# Altium schematic symbol library Connecteur.SchLib: 72 symbols
Pins are listed as number, name and electrical type; pins without a type are passive.

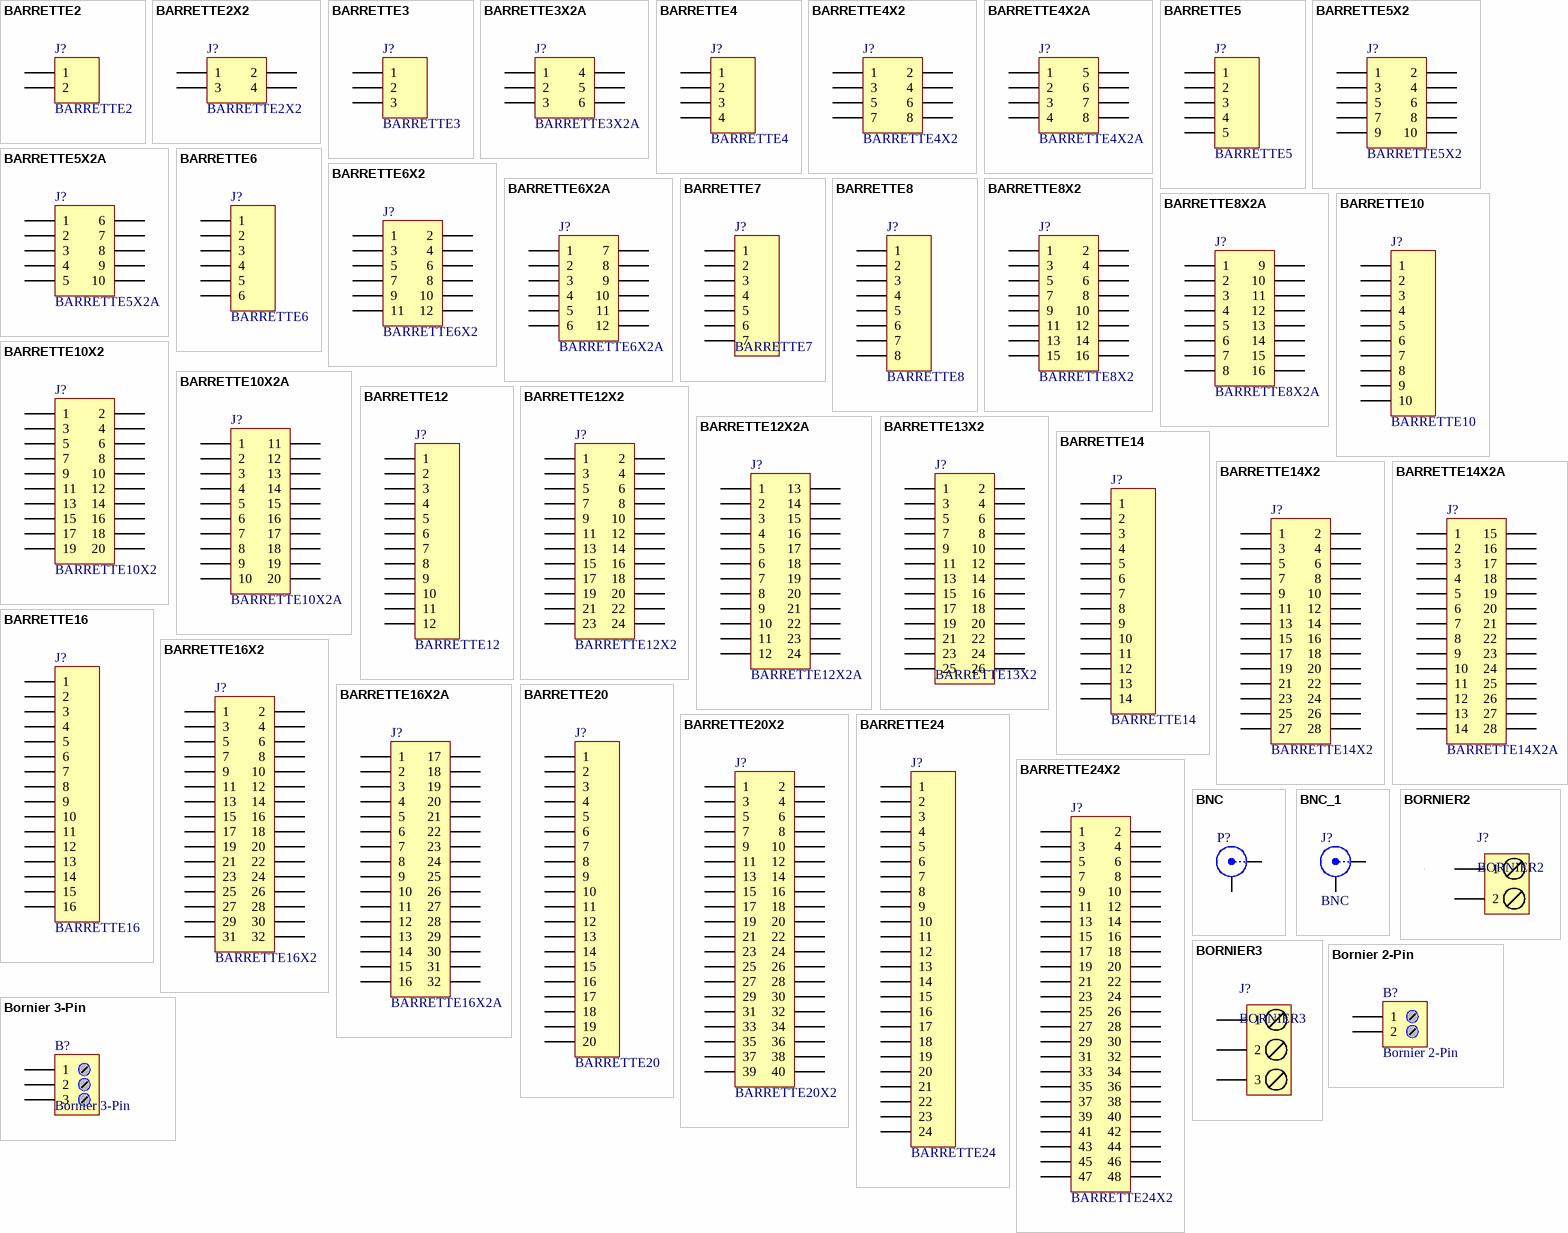
[diagram p0: symbols BARRETTE2 to Bornier 3-Pin]

## BARRETTE2
designator J?
Header, 2-Pin; LatestRevisionDate: 17-Jul-2002; LatestRevisionNote: Re-released for DXP Platform.; Publisher: Altium Limited
signal-integrity model Connector
footprint HEADER2 (Connector; Header; 2 Position)
footprint HEADER2H (Connector; Header; 2 Position; Right Angle)
footprint PIN2 (Connector; 2 Position; Pin Spacing=2.54mm; SIP2)
pins: 1, 2

## BARRETTE2X2
designator J?
Header, 2-Pin, Dual row; LatestRevisionDate: 17-Jul-2002; LatestRevisionNote: Re-released for DXP Platform.; Publisher: Altium Limited
signal-integrity model Connector
footprint HEADER2X2 (Connector; Header; 2x2 Position)
footprint HEADER2X2H (Connector; Header; 2x2 Position; Right Angle)
footprint HDRCMS2X2 (Connector; Header; CMS; 4 Position; Pin Spacing=2.54mm)
pins: 1, 2, 3, 4

## BARRETTE3
designator J?
Header, 3-Pin; LatestRevisionDate: 17-Jul-2002; LatestRevisionNote: Re-released for DXP Platform.; Publisher: Altium Limited
signal-integrity model Connector
footprint HEADER3 (Connector; Header; 3 Position)
footprint HEADER3H (Connector; Header; 3 Position; Right Angle)
footprint HE14_3 (Connector; HE14; 3 Position; Pin Spacing=2.54mm)
pins: 1, 2, 3

## BARRETTE3X2A
designator J?
Header, 3-Pin, Dual row; LatestRevisionDate: 17-Jul-2002; LatestRevisionNote: Re-released for DXP Platform.; Publisher: Altium Limited
signal-integrity model Connector
footprint HEADER3X2_CEN (Connector; Header; 3x2 Position)
pins: 1, 2, 3, 4, 5, 6

## BARRETTE4
designator J?
Header, 4-Pin; LatestRevisionDate: 17-Jul-2002; LatestRevisionNote: Re-released for DXP Platform.; Publisher: Altium Limited
signal-integrity model Connector
footprint HEADER4 (Connector; Header; 4 Position)
footprint HEADER4H (Connector; Header; 4 Position; Right Angle)
footprint HE14_4 (Connector; HE14; 4 Position; Pin Spacing=2.54mm)
pins: 1, 2, 3, 4

## BARRETTE4X2
designator J?
Header, 4-Pin, Dual row; LatestRevisionDate: 17-Jul-2002; LatestRevisionNote: Re-released for DXP Platform.; Publisher: Altium Limited
signal-integrity model Connector
footprint HEADER4X2 (Connector; Header; 4x2 Position)
footprint HEADER4X2H (Connector; Header; 4x2 Position; Right Angle)
footprint HDRCMS2X4 (Connector; Header; CMS; 8 Position; Pin Spacing=2.54mm)
pins: 1, 2, 3, 4, 5, 6, 7, 8

## BARRETTE4X2A
designator J?
Header, 4-Pin, Dual row; LatestRevisionDate: 17-Jul-2002; LatestRevisionNote: Re-released for DXP Platform.; Publisher: Altium Limited
signal-integrity model Connector
footprint HEADER4X2_CEN (Connector; Header; 4x2 Position)
pins: 1, 2, 3, 4, 5, 6, 7, 8

## BARRETTE5
designator J?
Header, 5-Pin; LatestRevisionDate: 17-Jul-2002; LatestRevisionNote: Re-released for DXP Platform.; Publisher: Altium Limited
signal-integrity model Connector
footprint HEADER5 (Connector; Header; 5 Position)
footprint HEADER5H (Connector; Header; 5 Position; Right Angle)
footprint HE14_5 (Connector; HE14; 5 Position; Pin Spacing=2.54mm)
pins: 1, 2, 3, 4, 5

## BARRETTE5X2
designator J?
Header, 5-Pin, Dual row; LatestRevisionDate: 17-Jul-2002; LatestRevisionNote: Re-released for DXP Platform.; Publisher: Altium Limited
signal-integrity model Connector
footprint HEADER5X2 (Connector; Header; 5x2 Position)
footprint HEADER5X2H (Connector; Header; 5x2 Position; Right Angle)
pins: 1, 2, 3, 4, 5, 6, 7, 8, 9, 10

## BARRETTE5X2A
designator J?
Header, 5-Pin, Dual row; LatestRevisionDate: 17-Jul-2002; LatestRevisionNote: Re-released for DXP Platform.; Publisher: Altium Limited
signal-integrity model Connector
footprint HEADER5X2_CEN (Connector; Header; 5x2 Position)
pins: 1, 2, 3, 4, 5, 6, 7, 8, 9, 10

## BARRETTE6
designator J?
Header, 6-Pin; LatestRevisionDate: 17-Jul-2002; LatestRevisionNote: Re-released for DXP Platform.; Publisher: Altium Limited
signal-integrity model Connector
footprint HEADER6 (Connector; Header; 6 Position)
footprint HEADER6H (Connector; Header; 6 Position; Right Angle)
footprint HE14_6 (Connector; HE14; 6 Position; Pin Spacing=2.54mm)
pins: 1, 2, 3, 4, 5, 6

## BARRETTE6X2
designator J?
Header, 6-Pin, Dual row; LatestRevisionDate: 17-Jul-2002; LatestRevisionNote: Re-released for DXP Platform.; Publisher: Altium Limited
signal-integrity model Connector
footprint HEADER6X2 (Connector; Header; 6x2 Position)
footprint HEADER6X2H (Connector; Header; 6x2 Position; Right Angle)
pins: 1, 2, 3, 4, 5, 6, 7, 8, 9, 10, 11, 12

## BARRETTE6X2A
designator J?
Header, 6-Pin, Dual row; LatestRevisionDate: 17-Jul-2002; LatestRevisionNote: Re-released for DXP Platform.; Publisher: Altium Limited
signal-integrity model Connector
footprint HEADER6X2_CEN (Connector; Header; 6x2 Position)
pins: 1, 2, 3, 4, 5, 6, 7, 8, 9, 10, 11, 12

## BARRETTE7
designator J?
Header, 6-Pin; LatestRevisionDate: 17-Jul-2002; LatestRevisionNote: Re-released for DXP Platform.; Publisher: Altium Limited
signal-integrity model Connector
footprint HEADER6 (Connector; Header; 6 Position)
footprint HEADER6H (Connector; Header; 6 Position; Right Angle)
footprint HE14_6 (Connector; HE14; 6 Position; Pin Spacing=2.54mm)
footprint MOLEX7_2.50MM (7 pins, straight)
pins: 1, 2, 3, 4, 5, 6, 7

## BARRETTE8
designator J?
Header, 8-Pin; LatestRevisionDate: 17-Jul-2002; LatestRevisionNote: Re-released for DXP Platform.; Publisher: Altium Limited
signal-integrity model Connector
footprint HEADER8 (Connector; Header; 8 Position)
footprint HEADER8H (Connector; Header; 8 Position; Right Angle)
footprint HE14_8 (Connector; HE14; 8 Position; Pin Spacing=2.54mm)
pins: 1, 2, 3, 4, 5, 6, 7, 8

## BARRETTE8X2
designator J?
Header, 8-Pin, Dual row; LatestRevisionDate: 17-Jul-2002; LatestRevisionNote: Re-released for DXP Platform.; Publisher: Altium Limited
signal-integrity model Connector
footprint HEADER8X2 (Connector; Header; 8x2 Position)
footprint HEADER8X2H (Connector; Header; 8x2 Position; Right Angle)
pins: 1, 2, 3, 4, 5, 6, 7, 8, 9, 10, 11, 12, 13, 14, 15, 16

## BARRETTE8X2A
designator J?
Header, 8-Pin, Dual row; LatestRevisionDate: 17-Jul-2002; LatestRevisionNote: Re-released for DXP Platform.; Publisher: Altium Limited
signal-integrity model Connector
footprint HEADER8X2_CEN (Connector; Header; 8x2 Position)
pins: 1, 2, 3, 4, 5, 6, 7, 8, 9, 10, 11, 12, 13, 14, 15, 16

## BARRETTE10
designator J?
Header, 10-Pin; LatestRevisionDate: 17-Jul-2002; LatestRevisionNote: Re-released for DXP Platform.; Publisher: Altium Limited
signal-integrity model Connector
footprint HEADER10 (Connector; Header; 10 Position)
footprint HEADER10H (Connector; Header; 10 Position; Right Angle)
pins: 1, 2, 3, 4, 5, 6, 7, 8, 9, 10

## BARRETTE10X2
designator J?
Header, 10-Pin, Dual row; LatestRevisionDate: 17-Jul-2002; LatestRevisionNote: Re-released for DXP Platform.; Publisher: Altium Limited
signal-integrity model Connector
footprint HEADER10X2 (Connector; Header; 10x2 Position)
footprint HEADER10X2H (Connector; Header; 10x2 Position; Right Angle)
pins: 1, 2, 3, 4, 5, 6, 7, 8, 9, 10, 11, 12, 13, 14, 15, 16, 17, 18, 19, 20

## BARRETTE10X2A
designator J?
Header, 10-Pin, Dual row; LatestRevisionDate: 17-Jul-2002; LatestRevisionNote: Re-released for DXP Platform.; Publisher: Altium Limited
signal-integrity model Connector
footprint HEADER10X2_CEN (Connector; Header; 10x2 Position)
pins: 1, 2, 3, 4, 5, 6, 7, 8, 9, 10, 11, 12, 13, 14, 15, 16, 17, 18, 19, 20

## BARRETTE12
designator J?
Header, 12-Pin; LatestRevisionDate: 17-Jul-2002; LatestRevisionNote: Re-released for DXP Platform.; Publisher: Altium Limited
signal-integrity model Connector
footprint HEADER12 (Connector; Header; 12 Position)
footprint HEADER12H (Connector; Header; 12 Position; Right Angle)
pins: 1, 2, 3, 4, 5, 6, 7, 8, 9, 10, 11, 12

## BARRETTE12X2
designator J?
Header, 12-Pin, Dual row; LatestRevisionDate: 17-Jul-2002; LatestRevisionNote: Re-released for DXP Platform.; Publisher: Altium Limited
signal-integrity model Connector
footprint HEADER12X2 (Connector; Header; 12x2 Position)
footprint HEADER12X2H (Connector; Header; 12x2 Position; Right Angle)
pins: 1, 2, 3, 4, 5, 6, 7, 8, 9, 10, 11, 12, 13, 14, 15, 16, 17, 18, 19, 20, 21, 22, 23, 24

## BARRETTE12X2A
designator J?
Header, 12-Pin, Dual row; LatestRevisionDate: 17-Jul-2002; LatestRevisionNote: Re-released for DXP Platform.; Publisher: Altium Limited
signal-integrity model Connector
footprint HEADER12X2_CEN (Connector; Header; 12x2 Position)
pins: 1, 2, 3, 4, 5, 6, 7, 8, 9, 10, 11, 12, 13, 14, 15, 16, 17, 18, 19, 20, 21, 22, 23, 24

## BARRETTE13X2
designator J?
Header, 13-Pin, Dual row; LatestRevisionDate: 17-Jul-2002; LatestRevisionNote: Re-released for DXP Platform.; Publisher: Altium Limited
signal-integrity model Connector
footprint HEADER12X2 (Connector; Header; 12x2 Position)
footprint HEADER12X2H (Connector; Header; 12x2 Position; Right Angle)
footprint HEADER13X2 (Footprint not found)
footprint HDR2X13
pins: 1, 2, 3, 4, 5, 6, 7, 8, 9, 10, 11, 12, 13, 14, 15, 16, 17, 18, 19, 20, 21, 22, 23, 24, 25, 26

## BARRETTE14
designator J?
Header, 14-Pin; LatestRevisionDate: 17-Jul-2002; LatestRevisionNote: Re-released for DXP Platform.; Publisher: Altium Limited
signal-integrity model Connector
footprint HEADER14 (Connector; Header; 14 Position)
footprint HEADER14H (Connector; Header; 14 Position; Right Angle)
pins: 1, 2, 3, 4, 5, 6, 7, 8, 9, 10, 11, 12, 13, 14

## BARRETTE14X2
designator J?
Header, 14-Pin, Dual row; LatestRevisionDate: 17-Jul-2002; LatestRevisionNote: Re-released for DXP Platform.; Publisher: Altium Limited
signal-integrity model Connector
footprint HEADER14X2 (Connector; Header; 14x2 Position)
footprint HEADER14X2H (Connector; Header; 14x2 Position; Right Angle)
pins: 1, 2, 3, 4, 5, 6, 7, 8, 9, 10, 11, 12, 13, 14, 15, 16, 17, 18, 19, 20, 21, 22, 23, 24, 25, 26, 27, 28

## BARRETTE14X2A
designator J?
Header, 14-Pin, Dual row; LatestRevisionDate: 17-Jul-2002; LatestRevisionNote: Re-released for DXP Platform.; Publisher: Altium Limited
signal-integrity model Connector
footprint HEADER14X2_CEN (Connector; Header; 14x2 Position)
pins: 1, 2, 3, 4, 5, 6, 7, 8, 9, 10, 11, 12, 13, 14, 15, 16, 17, 18, 19, 20, 21, 22, 23, 24, 25, 26, 27, 28

## BARRETTE16
designator J?
Header, 16-Pin; LatestRevisionDate: 17-Jul-2002; LatestRevisionNote: Re-released for DXP Platform.; Publisher: Altium Limited
signal-integrity model Connector
footprint HEADER16 (Connector; Header; 16 Position)
footprint HEADER16H (Connector; Header; 16 Position; Right Angle)
pins: 1, 2, 3, 4, 5, 6, 7, 8, 9, 10, 11, 12, 13, 14, 15, 16

## BARRETTE16X2
designator J?
Header, 16-Pin, Dual row; LatestRevisionDate: 17-Jul-2002; LatestRevisionNote: Re-released for DXP Platform.; Publisher: Altium Limited
signal-integrity model Connector
footprint HEADER16X2 (Connector; Header; 16x2 Position)
footprint HEADER16X2H (Connector; Header; 16x2 Position; Right Angle)
pins: 1, 2, 3, 4, 5, 6, 7, 8, 9, 10, 11, 12, 13, 14, 15, 16, 17, 18, 19, 20, 21, 22, 23, 24, 25, 26, 27, 28, 29, 30, 31, 32

## BARRETTE16X2A
designator J?
Header, 16-Pin, Dual row; LatestRevisionDate: 17-Jul-2002; LatestRevisionNote: Re-released for DXP Platform.; Publisher: Altium Limited
signal-integrity model Connector
footprint HEADER16X2_CEN (Connector; Header; 16x2 Position)
pins: 1, 2, 3, 4, 5, 6, 7, 8, 9, 10, 11, 12, 13, 14, 15, 16, 17, 18, 19, 20, 21, 22, 23, 24, 25, 26, 27, 28, 29, 30, 31, 32

## BARRETTE20
designator J?
Header, 20-Pin; LatestRevisionDate: 17-Jul-2002; LatestRevisionNote: Re-released for DXP Platform.; Publisher: Altium Limited
signal-integrity model Connector
footprint HEADER20 (Connector; Header; 20 Position)
footprint HEADER20H (Connector; Header; 20 Position; Right Angle)
pins: 1, 2, 3, 4, 5, 6, 7, 8, 9, 10, 11, 12, 13, 14, 15, 16, 17, 18, 19, 20

## BARRETTE20X2
designator J?
Header, 20-Pin, Dual row; LatestRevisionDate: 17-Jul-2002; LatestRevisionNote: Re-released for DXP Platform.; Publisher: Altium Limited
signal-integrity model Connector
footprint HEADER20X2 (Connector; Header; 20x2 Position)
footprint HEADER20X2H (Connector; Header; 20x2 Position; Right Angle)
pins: 1, 2, 3, 4, 5, 6, 7, 8, 9, 10, 11, 12, 13, 14, 15, 16, 17, 18, 19, 20, 21, 22, 23, 24, 25, 26, 27, 28, 29, 30, 31, 32, 33, 34, 35, 36, 37, 38, 39, 40

## BARRETTE24
designator J?
Header, 24-Pin; LatestRevisionDate: 17-Jul-2002; LatestRevisionNote: Re-released for DXP Platform.; Publisher: Altium Limited
signal-integrity model Connector
footprint HEADER24 (Connector; Header; 24 Position)
footprint HEADER24H (Connector; Header; 24 Position; Right Angle)
pins: 1, 2, 3, 4, 5, 6, 7, 8, 9, 10, 11, 12, 13, 14, 15, 16, 17, 18, 19, 20, 21, 22, 23, 24

## BARRETTE24X2
designator J?
Header, 24-Pin, Dual row; LatestRevisionDate: 17-Jul-2002; LatestRevisionNote: Re-released for DXP Platform.; Publisher: Altium Limited
signal-integrity model Connector
footprint HEADER24X2 (Connector; Header; 24x2 Position)
footprint HEADER24X2H (Connector; Header; 24x2 Position; Right Angle)
pins: 1, 2, 3, 4, 5, 6, 7, 8, 9, 10, 11, 12, 13, 14, 15, 16, 17, 18, 19, 20, 21, 22, 23, 24, 25, 26, 27, 28, 29, 30, 31, 32, 33, 34, 35, 36, 37, 38, 39, 40, 41, 42, 43, 44, 45, 46, 47, 48

## BNC
designator P?
BNC Elbow Connector; LatestRevisionDate: 17-Jul-2002; LatestRevisionNote: Re-released for DXP Platform.; Publisher: Altium Limited
footprint BNC_RA CON (Connector; BNC Elbow)
signal-integrity model Connector
pins: 1 X, 2 Y

## BNC_1
designator J?, comment BNC
BNC Elbow Connector; LatestRevisionDate: 17-Jul-2002; LatestRevisionNote: Re-released for DXP Platform.; Publisher: Altium Limited
signal-integrity model Connector
footprint BNC_FEM_COUDE_400 (Connector; BNC Square Right Angle; 50R; PCB Mount Jack Receptacle)
footprint BNC_FEM_COUD_ISOLEE_400 (Connector; BNC Right Angle; 50R; Insulation; mounting panel)
footprint BNC_VERT_250 (Connector; BNC Vertical; 50R;  Pin Spacing=6.34mm)
footprint BNC_VERT_400 (Connector; BNC Vertical; 50R; Pin Spacing=10.16mm)
pins: 1 X, 2 Y

## BORNIER2
designator J?
Terminal blocks, 2 pins, pitch=5mm
footprint BORNIER2 (Connector; Header; 2 Position; screw terminal blocks, Pin Spacing=5.08mm)
footprint BORNIER2_FEM_COUDE (Connector; Header; 2 Position; Right Angle; Female; Pin Spacing=5.08mm Green)
footprint BORNIER2_FEM_HORIZ (Connector; Header; 2 Position; Right Angle; Female; Pin Spacing=7.62mm Green)
pins: 1, 2

## BORNIER3
designator J?
Terminal blocks, 2 pins, pitch=5mm
footprint BORNIER3 (Connector; Header; 3 Position; screw terminal blocks, Pin Spacing=5.08mm)
footprint BORNIER3_FEM_COUDE (Connector; Header; 3 Position; Right Angle; Female; Pin Spacing=5.08mm Green)
pins: 1, 2, 3

## Bornier 2-Pin
designator B?
LatestRevisionDate: 17-Jul-2002; LatestRevisionNote: Re-released for DXP Platform.; Publisher: Altium Limited
signal-integrity model Connector
footprint Bornier_2
pins: 1, 2

## Bornier 3-Pin
designator B?
LatestRevisionDate: 17-Jul-2002; LatestRevisionNote: Re-released for DXP Platform.; Publisher: Altium Limited
footprint Bornier_3
pins: 1, 2, 3

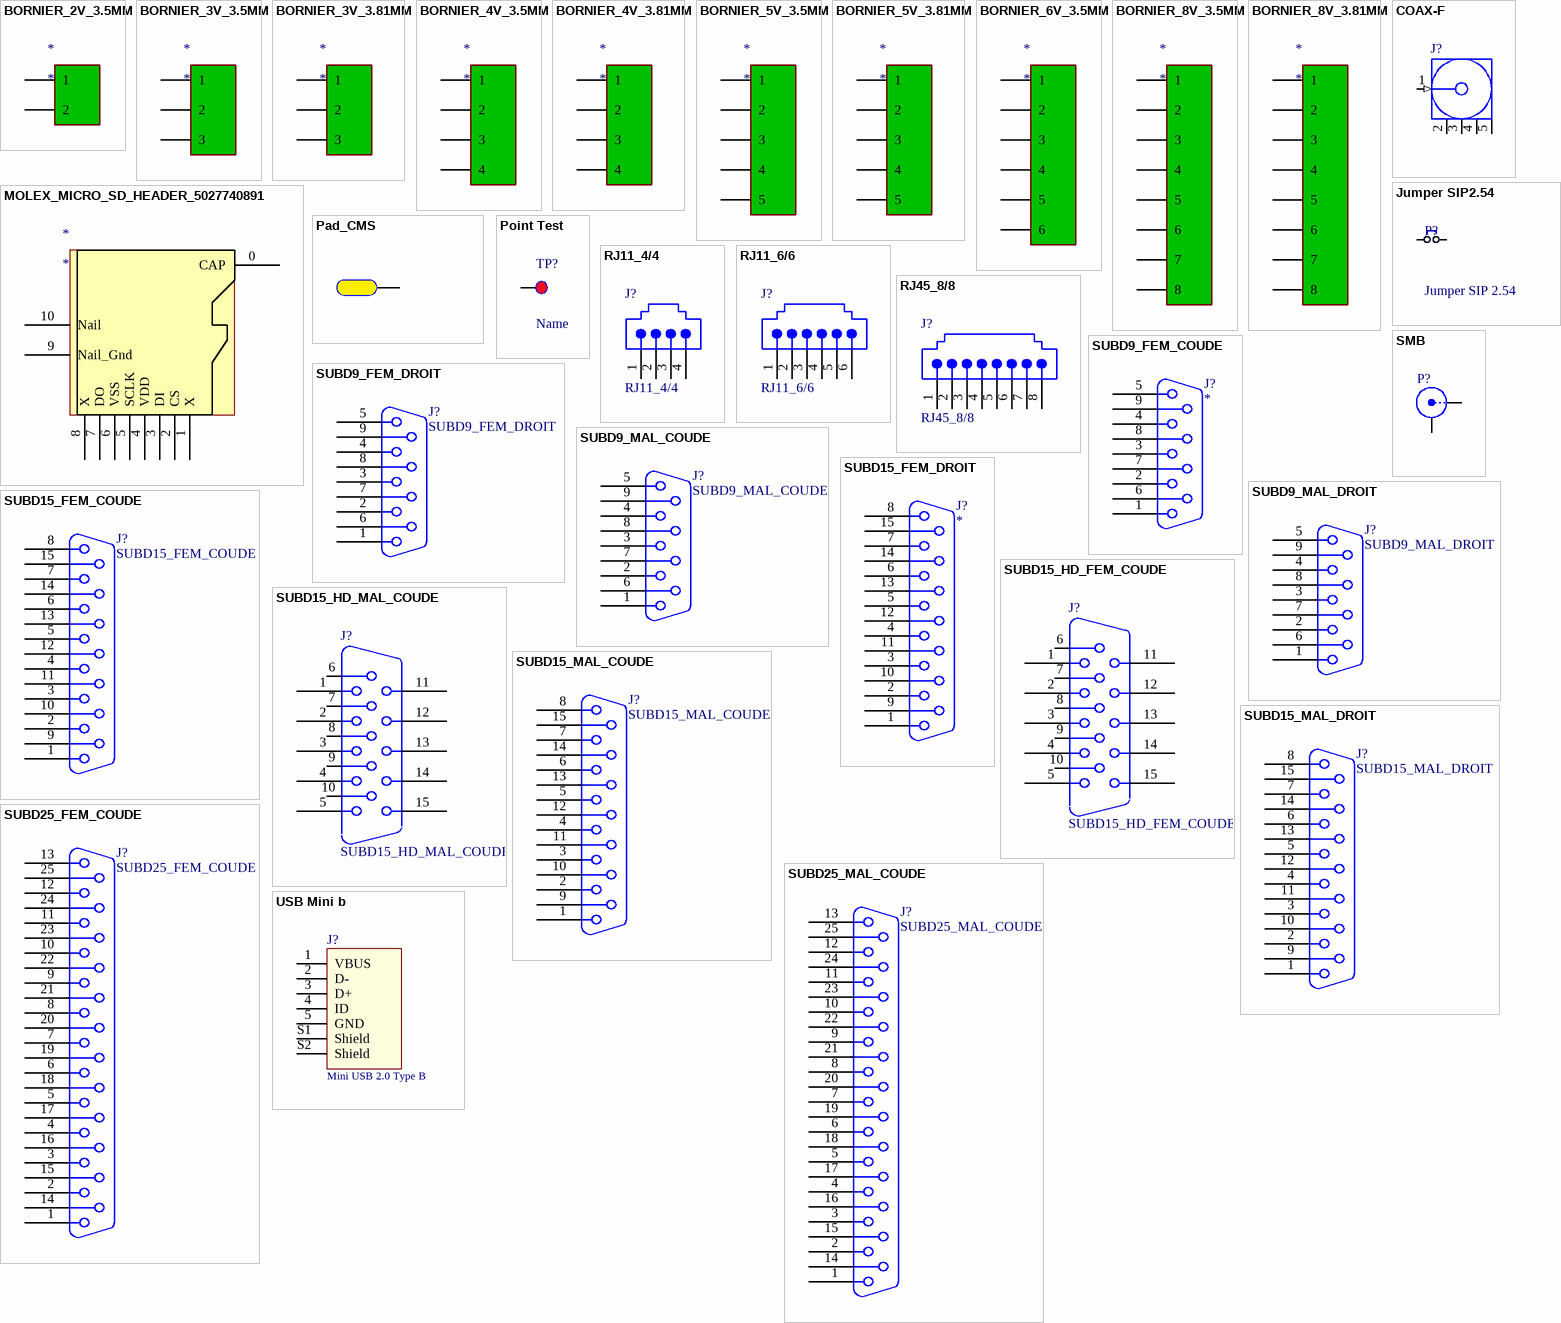
[diagram p1: symbols BORNIER_2V_3.5MM to USB Mini b]

## BORNIER_2V_3.5MM
designator *
footprint BORNIER_2V_3.5MM
pins: 1, 2

## BORNIER_3V_3.5MM
designator *
footprint BORNIER_3V_3.5MM
pins: 1, 2, 3

## BORNIER_3V_3.81MM
designator *
footprint BORNIER_3V_3.81MM
pins: 1, 2, 3

## BORNIER_4V_3.5MM
designator *
footprint BORNIER_4V_3.5MM (Footprint not found)
pins: 1, 2, 3, 4

## BORNIER_4V_3.81MM
designator *
footprint BORNIER_4V_3.81MM (Footprint not found)
pins: 1, 2, 3, 4

## BORNIER_5V_3.5MM
designator *
footprint BORNIER_5V_3.5MM
pins: 1, 2, 3, 4, 5

## BORNIER_5V_3.81MM
designator *
footprint BORNIER_5V_3.81MM
pins: 1, 2, 3, 4, 5

## BORNIER_6V_3.5MM
designator *
footprint BORNIER_6V_3.5MM
pins: 1, 2, 3, 4, 5, 6

## BORNIER_8V_3.5MM
designator *
BORNIER_8V_3.5MM
footprint BORNIER_8V_3.5MM (Footprint not found)
footprint BORNIER_8V_3.5MM_COUDE
pins: 1, 2, 3, 4, 5, 6, 7, 8

## BORNIER_8V_3.81MM
designator *
BORNIER_8V_3.81MM
footprint BORNIER_8V_3.81MM
pins: 1, 2, 3, 4, 5, 6, 7, 8

## COAX-F
designator J?
RF Coaxial PCB Connector, MCX; Thru-Hole, Right-Angle Mount Socket, Blunt Post Terminal, 50 Ohm Impedance; PCB_Layout: Complies with manufacturer's recommendation.; DrillSize: Corresponds to nominal value.; Published: 15-Jul-2004; LatestRevisionDate: 15-Jul-2004; LatestRevisionNote: Component Replaced.; DatasheetDocument: 30-May-2003; PackageDocument: 04-Jul-1999; PackageReference: 919-119J-51AX; Publisher: Altium Limited; ComponentLink1Description: Manufacturer Link; ComponentLink1URL: http://www.amphenolrf.com/
footprint MCX5.08-H5 (Connector; RF Coaxial, MCX, Thru-Hole; 5 Position; Right-Angle)
pins: 1 Signal (in) "Signal Pin", 2 GND (power), 3 GND (power), 4 GND (power), 5 GND (power)

## Jumper SIP2.54
designator P?, comment Jumper SIP 2.54
Jumper SIP2.54
footprint HDR1X2 (Connector; Header; 2 Position)
signal-integrity model Connector
pins: 1, 2

## MOLEX_MICRO_SD_HEADER_5027740891
designator *
footprint MOLEX_MICRO_SD_HEADER_5027740891
pins: 0 CAP, 1 X, 2 CS, 3 DI, 4 VDD, 5 SCLK, 6 VSS, 7 DO, 8 X, 9 Nail_Gnd, 10 Nail

## Pad_CMS
designator P?
Pad pour souder un fil; LatestRevisionNote: Mech Layer 1 removed.; PackageReference: PAD_CMS; Publisher: Damien Guitton
footprint PAD_CMS_5.08x2.54 (Pad pour souder un fil)
footprint PAD_CMS_10x3 (Pad pour souder un fil)
pins: 1

## Point Test
designator TP?, comment Name
Point test; Publisher: Damien GUITTON
footprint Point Test_D2.54_P1mm (Test point for PCB_Hole 1mm)
footprint Point Test_D3_P1.6mm (Test point for PCB_Hole 1.6mm)
footprint Point Test_D0.9_P0.5mm (Test point for PCB_Hole 0.5mm)
footprint Point Test_D1.4_P1mm (Test point for PCB_Hole 1mm)
pins: 1

## RJ11_4/4
designator J?
Right Angle, Standard Profile, RJ11-Keyed, Flange Mount PCB Jack; Ports: 1; Positions/Loaded: Port1 - 8 Keyed/4; PerformanceCategory: 3; PCB_Mounting: Thru-Hole; ComponentAvailability: Obsolete; DrillSize: Nominal, Rounded to nearest 0.05mm; PCB_Layout: Complies with Manufacturer's Recommendation.; Published: 25-Jun-2002; DatasheetDocument: 18-Dec-2001; PackageDocument: 18-Dec-2001; PackageReference: 15-43-6245; Publisher: Altium Limited; ComponentLink1Description: Manufacturer Link; ComponentLink1URL: http://www.molex.com/; ComponentLink2Description: Datasheet; ComponentLink2URL: http://www.molex.com/cmc_upload/common_files/1212003_catalogmx41314.pdf; ComponentLink3Description: Iges Model; ComponentLink3URL: http://www.molex.com/pdm_docs/igs/15-43-6233_igs.zip; Type: RJ11_4/4
footprint RJ11_4/4 (Connector; RJ11; 4P/4C; Low Profil; Right Angle; Pin Spacing=2.54mm)
pins: 1, 2, 3, 4

## RJ11_6/6
designator J?
Right Angle, Standard Profile, Offset Latch DECconnect, Flangeless PCB Jack; Ports: 1; Positions/Loaded: Port1 - 6 Offset Latch/6; PerformanceCategory: 3; PCB_Mounting: Thru-Hole; DrillSize: Nominal, Rounded to nearest 0.05mm; PCB_Layout: Complies with Manufacturer's Recommendation.; Published: 25-Jun-2002; DatasheetDocument: 18-Dec-2001; PackageDocument: 18-Dec-2001; PackageReference: 15-43-6110; Publisher: Altium Limited; ComponentLink1Description: Manufacturer Link; ComponentLink1URL: http://www.molex.com/; ComponentLink2Description: Datasheet; ComponentLink2URL: http://www.molex.com/cmc_upload/common_files/1212003_41369catalogpage.pdf; Type: RJ11_6/6
footprint RJ11_6/6 (Connector; RJ11; 6P/6C; Low Profil; Right Angle; Pin Spacing=2.54mm)
footprint RJ11_6/6 - droit (Connector; RJ11; 6P/6C; Low Profil; Right Angle; Pin Spacing=2.54mm)
pins: 1, 2, 3, 4, 5, 6

## RJ45_8/8
designator J?
Right Angle, Standard Profile, RJ45-Keyed, Flange Mount PCB Jack; Ports: 1; Positions/Loaded: Port1 - 8 Keyed/8; PerformanceCategory: 3; PCB_Mounting: Thru-Hole; ComponentAvailability: Obsolete; DrillSize: Nominal, Rounded to nearest 0.05mm; PCB_Layout: Complies with Manufacturer's Recommendation.; Published: 25-Jun-2002; DatasheetDocument: 18-Dec-2001; PackageDocument: 18-Dec-2001; PackageReference: 15-43-6233; Publisher: Altium Limited; ComponentLink1Description: Manufacturer Link; ComponentLink1URL: http://www.molex.com/; ComponentLink2Description: Datasheet; ComponentLink2URL: http://www.molex.com/cmc_upload/common_files/1212003_catalogmx41314.pdf; ComponentLink3Description: Iges Model; ComponentLink3URL: http://www.molex.com/pdm_docs/igs/15-43-6233_igs.zip; Type: RJ45_8/8
footprint RJ45_8/8 (Connector; RJ45; 8P/8C; Low Profil; Right Angle; Pin Spacing=2.54mm)
pins: 1, 2, 3, 4, 5, 6, 7, 8

## SMB
designator P?
SMB Straight Connector; LatestRevisionDate: 17-Jul-2002; LatestRevisionNote: Re-released for DXP Platform.; Publisher: Altium Limited
footprint SMB_V-RJ45 (Connector; SMB Straight)
signal-integrity model Connector
pins: 1 X, 2 Y

## SUBD9_FEM_COUDE
designator J?
Connector; SUBD; 9 Position;Female; Right Angle
footprint SUBD9_FEM_COUDE (Connector; SUBD; 9 Position;Female; Right Angle; Pin Spacing=2.77mm/2.8mm)
pins: 1, 2, 3, 4, 5, 6, 7, 8, 9

## SUBD9_FEM_DROIT
designator J?
Connector; SUBD; 9 Position; Female
footprint SUBD9_FEM_DROIT (Connector; SUBD; 9 Position; Female; Pin Spacing=2.77mm/2.8mm)
pins: 1, 2, 3, 4, 5, 6, 7, 8, 9

## SUBD9_MAL_COUDE
designator J?
Connector; SUBD; 9 Position; Male; Right Angle;
footprint SUBD9_MAL_COUDE (Connector; SUBD; 9 Position; Male; Right Angle; Pin Spacing=2.77mm/2.8mm)
pins: 1, 2, 3, 4, 5, 6, 7, 8, 9

## SUBD9_MAL_DROIT
designator J?
Connector; SUBD; 9 Position; Male
footprint SUBD9_MAL_DROIT (Connector; SUBD; 9 Position; Male; Pin Spacing=2.77mm/2.8mm)
pins: 1, 2, 3, 4, 5, 6, 7, 8, 9

## SUBD15_FEM_COUDE
designator J?
Connector; SUBD; 15 Position; Female; Right Angle
footprint SUBD15_FEM_COUDE (Connector; SUBD; 15 Position; Female; Right Angle; Pin Spacing=2.77mm/2.8mm)
pins: 1, 2, 3, 4, 5, 6, 7, 8, 9, 10, 11, 12, 13, 14, 15

## SUBD15_FEM_DROIT
designator J?
Connector; SUBD; 15 Position; Female
footprint SUBD15_FEM_DROIT (Connector; SUBD; 15 Position; Female; Pin Spacing=2.77mm/2.8mm)
pins: 1, 2, 3, 4, 5, 6, 7, 8, 9, 10, 11, 12, 13, 14, 15

## SUBD15_HD_FEM_COUDE
designator J?
Connector; SUBD; 15 Position; Female; Right Angle; High Density
footprint SUBD15_FEM_COUDE_HD (Connector; SUBD; 15 Position; Female; Right Angle; High Density; Pin Spacing=2.29mm/2.54mm)
pins: 1, 2, 3, 4, 5, 6, 7, 8, 9, 10, 11, 12, 13, 14, 15

## SUBD15_HD_MAL_COUDE
designator J?
Connector; SUBD; 15 Position; Male; Right Angle; High Density
footprint SUBD15_MAL_COUDE_HD (Connector; SUBD; 15 Position; Male; Right Angle; High Density; Pin Spacing=2.29mm/2.54mm)
pins: 1, 2, 3, 4, 5, 6, 7, 8, 9, 10, 11, 12, 13, 14, 15

## SUBD15_MAL_COUDE
designator J?
Connector; SUBD; 15 Position; Male; Right Angle
footprint SUBD15_MAL_COUDE (Connector; SUBD; 15 Position; Male; Right Angle; Pin Spacing=2.77mm/2.8mm)
pins: 1, 2, 3, 4, 5, 6, 7, 8, 9, 10, 11, 12, 13, 14, 15

## SUBD15_MAL_DROIT
designator J?
Connector; SUBD; 15 Position; Male
footprint SUBD15_MAL_DROIT (Connector; SUBD; 15 Position; Male; Pin Spacing=2.77mm/2.8mm)
pins: 1, 2, 3, 4, 5, 6, 7, 8, 9, 10, 11, 12, 13, 14, 15

## SUBD25_FEM_COUDE
designator J?
Connector; SUBD; 25 Position; Female; Right Angle
footprint SUBD25_FEM_COUDE (Connector; SUBD; 25 Position; Female; Right Angle; Pin Spacing=2.77mm/2.8mm)
pins: 1, 2, 3, 4, 5, 6, 7, 8, 9, 10, 11, 12, 13, 14, 15, 16, 17, 18, 19, 20, 21, 22, 23, 24, 25

## SUBD25_MAL_COUDE
designator J?
Connector; SUBD; 25 Position; Male; Right Angle
footprint SUBD25_MAL_COUDE (Connector; SUBD; 25 Position; Male; Right Angle; Pin Spacing=2.77mm/2.8mm)
pins: 1, 2, 3, 4, 5, 6, 7, 8, 9, 10, 11, 12, 13, 14, 15, 16, 17, 18, 19, 20, 21, 22, 23, 24, 25

## USB Mini b
designator J?, comment Mini USB 2.0 Type B
Mini USB 2.0 Type B Vertical THT 5 Contacts WR-COM (ref WURTH : 65100516121); Part Number: 651005136421; Rated Current: 1 A; Gender: Female; ComponentLink1Description: Manufacturer; ComponentLink1URL: http://www.we-online.de; ComponentLink2Description: Datasheet; ComponentLink2URL: http://katalog.we-online.de/em/datasheet/651005136421%282%29.pdf; Published Date: May 2018; Publisher: Wurth Elektronik; Orientation: Vertical; Interface Type: Mini USB 2.0 Type B; Operating Temperature: -40 to 105 degC; Mounting Technology: THT; Packaging: Tray
footprint USB_MiniB_Horizontal (Mini USB 2.0 Type B SMT Horizontal 5 Contacts ref WURTH : 65100516121)
pins: 1 VBUS, 2 D-, 3 D+, 4 ID, 5 GND, S1 Shield, S2 Shield